# EAGLE library part LOPY (library pycom)
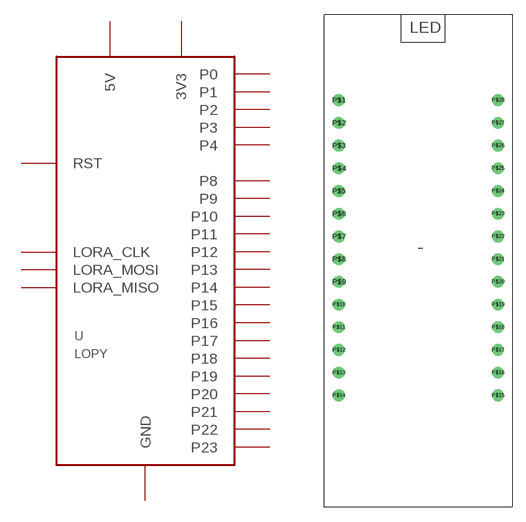
[diagram p0: symbol with the pads of LOPY; footprint LOPY]

Designator prefix U

## LOPY  [LOPY]
P$1  RST
P$2  P0
P$3  P1
P$4  P2
P$5  P3
P$6  P4
P$7  LORA_CLK  nc
P$8  LORA_MOSI  nc
P$9  LORA_MISO  nc
P$10  P8
P$11  P9
P$12  P10
P$13  P11
P$14  P12
P$15  P13  in
P$16  P14  in
P$17  P15  in
P$18  P16  in
P$19  P17  in
P$20  P18  in
P$21  P19
P$22  P20
P$23  P21
P$24  P22
P$25  P23
P$26  3V3  pwr
P$27  GND  pwr
P$28  5V  pwr

## Footprint LOPY (pad centres in mm)
drill 0.8: P$1 -8.89,16.51; P$2 -8.89,13.97; P$3 -8.89,11.43; P$4 -8.89,8.89; P$5 -8.89,6.35; P$6 -8.89,3.81; P$7 -8.89,1.27; P$8 -8.89,-1.27; P$9 -8.89,-3.81; P$10 -8.89,-6.35; P$11 -8.89,-8.89; P$12 -8.89,-11.43; P$13 -8.89,-13.97; P$14 -8.89,-16.51; P$15 8.89,-16.51; P$16 8.89,-13.97; P$17 8.89,-11.43; P$18 8.89,-8.89; P$19 8.89,-6.35; P$20 8.89,-3.81; P$21 8.89,-1.27; P$22 8.89,1.27; P$23 8.89,3.81; P$24 8.89,6.35; P$25 8.89,8.89; P$26 8.89,11.43; P$27 8.89,13.97; P$28 8.89,16.51